# EAGLE library part ENCODER_RGB_CA_SW (library halcyonmod_Switches)
lluminated Rotary Encoder, RGB LED, Command Anode, with Switch Part Number: EC12PLRGBSDVBF-D Source: http://top-up.so-buy.com/front/bin/ptdetail.phtml?Part=EC12PLRGBSDVBF-D Supplier: https://www.sparkfun.com/products/10982
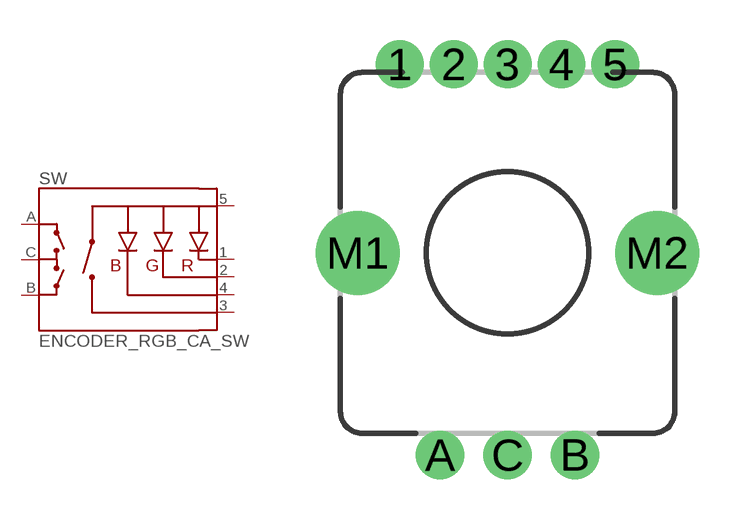
[diagram p1: symbol with the pads of ENCODER_RGB_CA_SW; footprint ENCODER_RGB_CA_SW]

Designator prefix SW

## ENCODER_RGB_CA_SW  [ENCODER_RGB_CA_SW]
1  -R  pas
2  -G  pas
3  SW  pas
4  -B  pas
5  +  pas
A  A
B  B
C  C

## Footprint ENCODER_RGB_CA_SW (pad centres in mm)
drill 1.1 pad 1.778: 1 -4,7; 2 -2,7; 3 0,7; 4 2,7; 5 4,7
drill 1.1 pad 1.8: A -2.5,-7.5; B 2.5,-7.5; C 0,-7.5
drill 2.1: M1 -5.55,0; M2 5.55,0